# EAGLE library part RC1602 (library Disp)
Okaya RS1602 16x2 line display 16 pin LCD
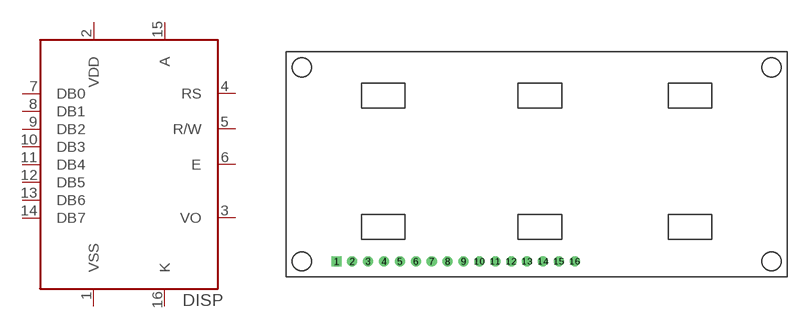
[diagram p8: symbol with the pads of LCD-RC1602-D; footprint LCD-RC1602-D]

Designator prefix DISP

## RC1602-D  [LCD-RC1602-D]
1  VSS  pwr
2  VDD  pwr
3  VO  in
4  RS
5  R/W
6  E
7  DB0
8  DB1
9  DB2
10  DB3
11  DB4
12  DB5
13  DB6
14  DB7
15  A  pwr
16  K  pwr

## Footprint LCD-RC1602-D (pad centres in mm)
drill 1.067 square: 1 0,0
drill 1.067 round: 2 2.54,0; 3 5.08,0; 4 7.62,0; 5 10.16,0; 6 12.7,0; 7 15.24,0; 8 17.78,0; 9 20.32,0; 10 22.86,0; 11 25.4,0; 12 27.94,0; 13 30.48,0; 14 33.02,0; 15 35.56,0; 16 38.1,0